# Altium footprint library SIM908.PcbLib: 1 footprints
Each footprint in its own frame and in the unit in brackets; x right, y up, seen from the top. Pads: shape width x height; smd on the part's side, far side on the other; paste and mask are expansions set on the pad; w line width, h text height; cw(c..) or ccw(c..) is an arc to the next point about the centre after c.
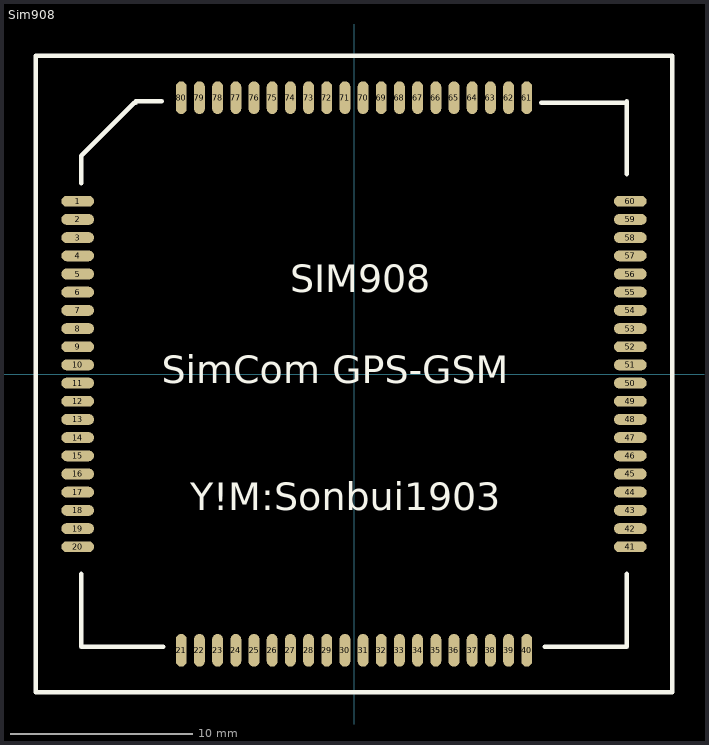
[diagram p0: the footprint, top view; thin cyan lines are the x and y axes]

## Sim908 [mm] "SimCom Sim908 GPS/GSM"
pads (80):
  oval 1.8x0.6 smd: 1(-15.2,9.5) 2(-15.2,8.5) 3(-15.2,7.5) 4(-15.2,6.5) 5(-15.2,5.5) 6(-15.2,4.5) 7(-15.2,3.5) 8(-15.2,2.5) 9(-15.2,1.5) 10(-15.2,0.5) 11(-15.2,-0.5) 12(-15.2,-1.5) 13(-15.2,-2.5) 14(-15.2,-3.5) 15(-15.2,-4.5) 16(-15.2,-5.5) 17(-15.2,-6.5) 18(-15.2,-7.5) 19(-15.2,-8.5) 20(-15.2,-9.5) 41(15.2,-9.5) 42(15.2,-8.5) 43(15.2,-7.5) 44(15.2,-6.5) 45(15.2,-5.5) 46(15.2,-4.5) 47(15.2,-3.5) 48(15.2,-2.5) 49(15.2,-1.5) 50(15.2,-0.5) 51(15.2,0.5) 52(15.2,1.5) 53(15.2,2.5) 54(15.2,3.5) 55(15.2,4.5) 56(15.2,5.5) 57(15.2,6.5) 58(15.2,7.5) 59(15.2,8.5) 60(15.2,9.5)
  oval 0.6x1.8 smd: 21(-9.5,-15.2) 22(-8.5,-15.2) 23(-7.5,-15.2) 24(-6.5,-15.2) 25(-5.5,-15.2) 26(-4.5,-15.2) 27(-3.5,-15.2) 28(-2.5,-15.2) 29(-1.5,-15.2) 30(-0.5,-15.2) 31(0.5,-15.2) 32(1.5,-15.2) 33(2.5,-15.2) 34(3.5,-15.2) 35(4.5,-15.2) 36(5.5,-15.2) 37(6.5,-15.2) 38(7.5,-15.2) 39(8.5,-15.2) 40(9.5,-15.2) 61(9.5,15.2) 62(8.5,15.2) 63(7.5,15.2) 64(6.5,15.2) 65(5.5,15.2) 66(4.5,15.2) 67(3.5,15.2) 68(2.5,15.2) 69(1.5,15.2) 70(0.5,15.2) 71(-0.5,15.2) 72(-1.5,15.2) 73(-2.5,15.2) 74(-3.5,15.2) 75(-4.5,15.2) 76(-5.5,15.2) 77(-6.5,15.2) 78(-7.5,15.2) 79(-8.5,15.2) 80(-9.5,15.2)
Top Overlay:
  lines w0.254: -15,-11 -15,-15 -10.5,-15 ; -15,10.5 -15,12 -12.076,14.924 -12,14.924 -12,15 -10.576,15 ; 10.298,14.924 14.924,14.924 ; 10.5,-15 15,-15 15,-11 ; 14.924,17.5 17.5,17.5 17.5,-17.5 -17.5,-17.5 -17.5,17.5 15,17.5 ; 15,11 15,15
  text "SIM908" at -3.5,4.5 h1.52
  text "Y!M:Sonbui1903" at -9,-7.5 h1.52
  text "SimCom GPS-GSM" at -10.576,-0.5 h1.52
3D body: height 0.89, standoff -2.31, extent -14.766,-15.152 15.234,14.848